# EAGLE library part 640445-8 (library con-te)
6 Positions Header, Unshrouded Connector 0.156"
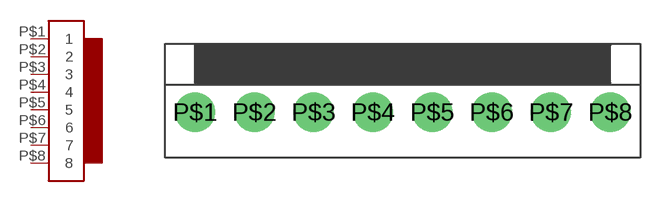
[diagram p1: symbol with the pads of 640445-8; footprint 640445-8]

Designator prefix J

## 640445-8 (ASSOC: A24117-ND; DIGIKEY: A1974-ND)  [640445-8]
P$1  1
P$2  2
P$3  3
P$4  4
P$5  5
P$6  6
P$7  7
P$8  8

## Footprint 640445-8 (pad centres in mm)
drill 1.778: P$1 -13.868,0; P$2 -9.906,0; P$3 -5.944,0; P$4 -1.981,0; P$5 1.981,0; P$6 5.944,0; P$7 9.906,0; P$8 13.868,0